# EAGLE library part SII164 (library armlab)
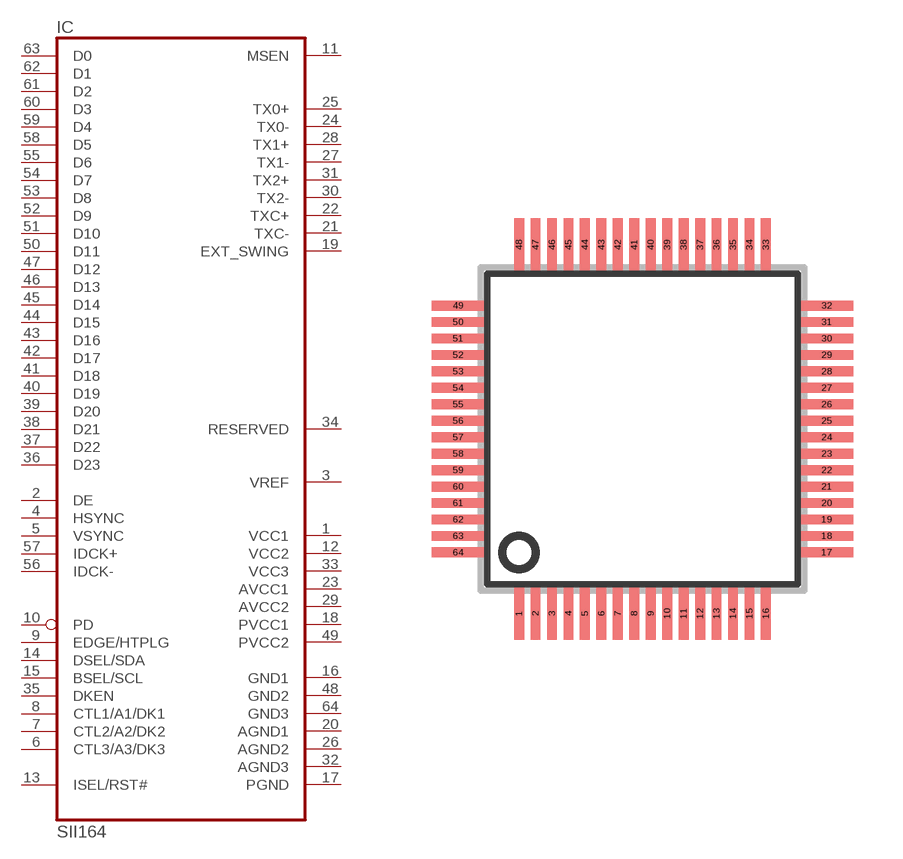
[diagram p4: symbol with the pads of SQFP-S-10X10-64; footprint SQFP-S-10X10-64]

Designator prefix IC

## SII164  [SQFP-S-10X10-64]
1  VCC1  pwr
2  DE  in
3  VREF  pwr
4  HSYNC  in
5  VSYNC  in
6  CTL3/A3/DK3  in
7  CTL2/A2/DK2  in
8  CTL1/A1/DK1  in
9  EDGE/HTPLG  in
10  PD  in
11  MSEN  out
12  VCC2  pwr
13  ISEL/RST#  in
14  DSEL/SDA
15  BSEL/SCL  in
16  GND1  pwr
17  PGND  pwr
18  PVCC1  pwr
19  EXT_SWING  out
20  AGND1  pwr
21  TXC-  out
22  TXC+  out
23  AVCC1  pwr
24  TX0-  out
25  TX0+  out
26  AGND2  pwr
27  TX1-  out
28  TX1+  out
29  AVCC2  pwr
30  TX2-  out
31  TX2+  out
32  AGND3  pwr
33  VCC3  pwr
34  RESERVED  in
35  DKEN  in
36  D23  in
37  D22  in
38  D21  in
39  D20  in
40  D19  in
41  D18  in
42  D17  in
43  D16  in
44  D15  in
45  D14  in
46  D13  in
47  D12  in
48  GND2  pwr
49  PVCC2  pwr
50  D11  in
51  D10  in
52  D9  in
53  D8  in
54  D7  in
55  D6  in
56  IDCK-  in
57  IDCK+  in
58  D5  in
59  D4  in
60  D3  in
61  D2  in
62  D1  in
63  D0  in
64  GND3  pwr

## Footprint SQFP-S-10X10-64 (pad centres in mm)
QFP64 shrink quad flat pack, square
smd 0.3 x 1.6: 1 -3.75,-5.6; 2 -3.25,-5.6; 3 -2.75,-5.6; 4 -2.25,-5.6; 5 -1.75,-5.6; 6 -1.25,-5.6; 7 -0.75,-5.6; 8 -0.25,-5.6; 9 0.25,-5.6; 10 0.75,-5.6; 11 1.25,-5.6; 12 1.75,-5.6; 13 2.25,-5.6; 14 2.75,-5.6; 15 3.25,-5.6; 16 3.75,-5.6; 33 3.75,5.6; 34 3.25,5.6; 35 2.75,5.6; 36 2.25,5.6; 37 1.75,5.6; 38 1.25,5.6; 39 0.75,5.6; 40 0.25,5.6; 41 -0.25,5.6; 42 -0.75,5.6; 43 -1.25,5.6; 44 -1.75,5.6; 45 -2.25,5.6; 46 -2.75,5.6; 47 -3.25,5.6; 48 -3.75,5.6
smd 1.6 x 0.3: 17 5.6,-3.75; 18 5.6,-3.25; 19 5.6,-2.75; 20 5.6,-2.25; 21 5.6,-1.75; 22 5.6,-1.25; 23 5.6,-0.75; 24 5.6,-0.25; 25 5.6,0.25; 26 5.6,0.75; 27 5.6,1.25; 28 5.6,1.75; 29 5.6,2.25; 30 5.6,2.75; 31 5.6,3.25; 32 5.6,3.75; 49 -5.6,3.75; 50 -5.6,3.25; 51 -5.6,2.75; 52 -5.6,2.25; 53 -5.6,1.75; 54 -5.6,1.25; 55 -5.6,0.75; 56 -5.6,0.25; 57 -5.6,-0.25; 58 -5.6,-0.75; 59 -5.6,-1.25; 60 -5.6,-1.75; 61 -5.6,-2.25; 62 -5.6,-2.75; 63 -5.6,-3.25; 64 -5.6,-3.75